# Altium integrated library Analog Devices RF IF Modulators and Demodulators.IntLib: 86 symbols (part 7 of 8)
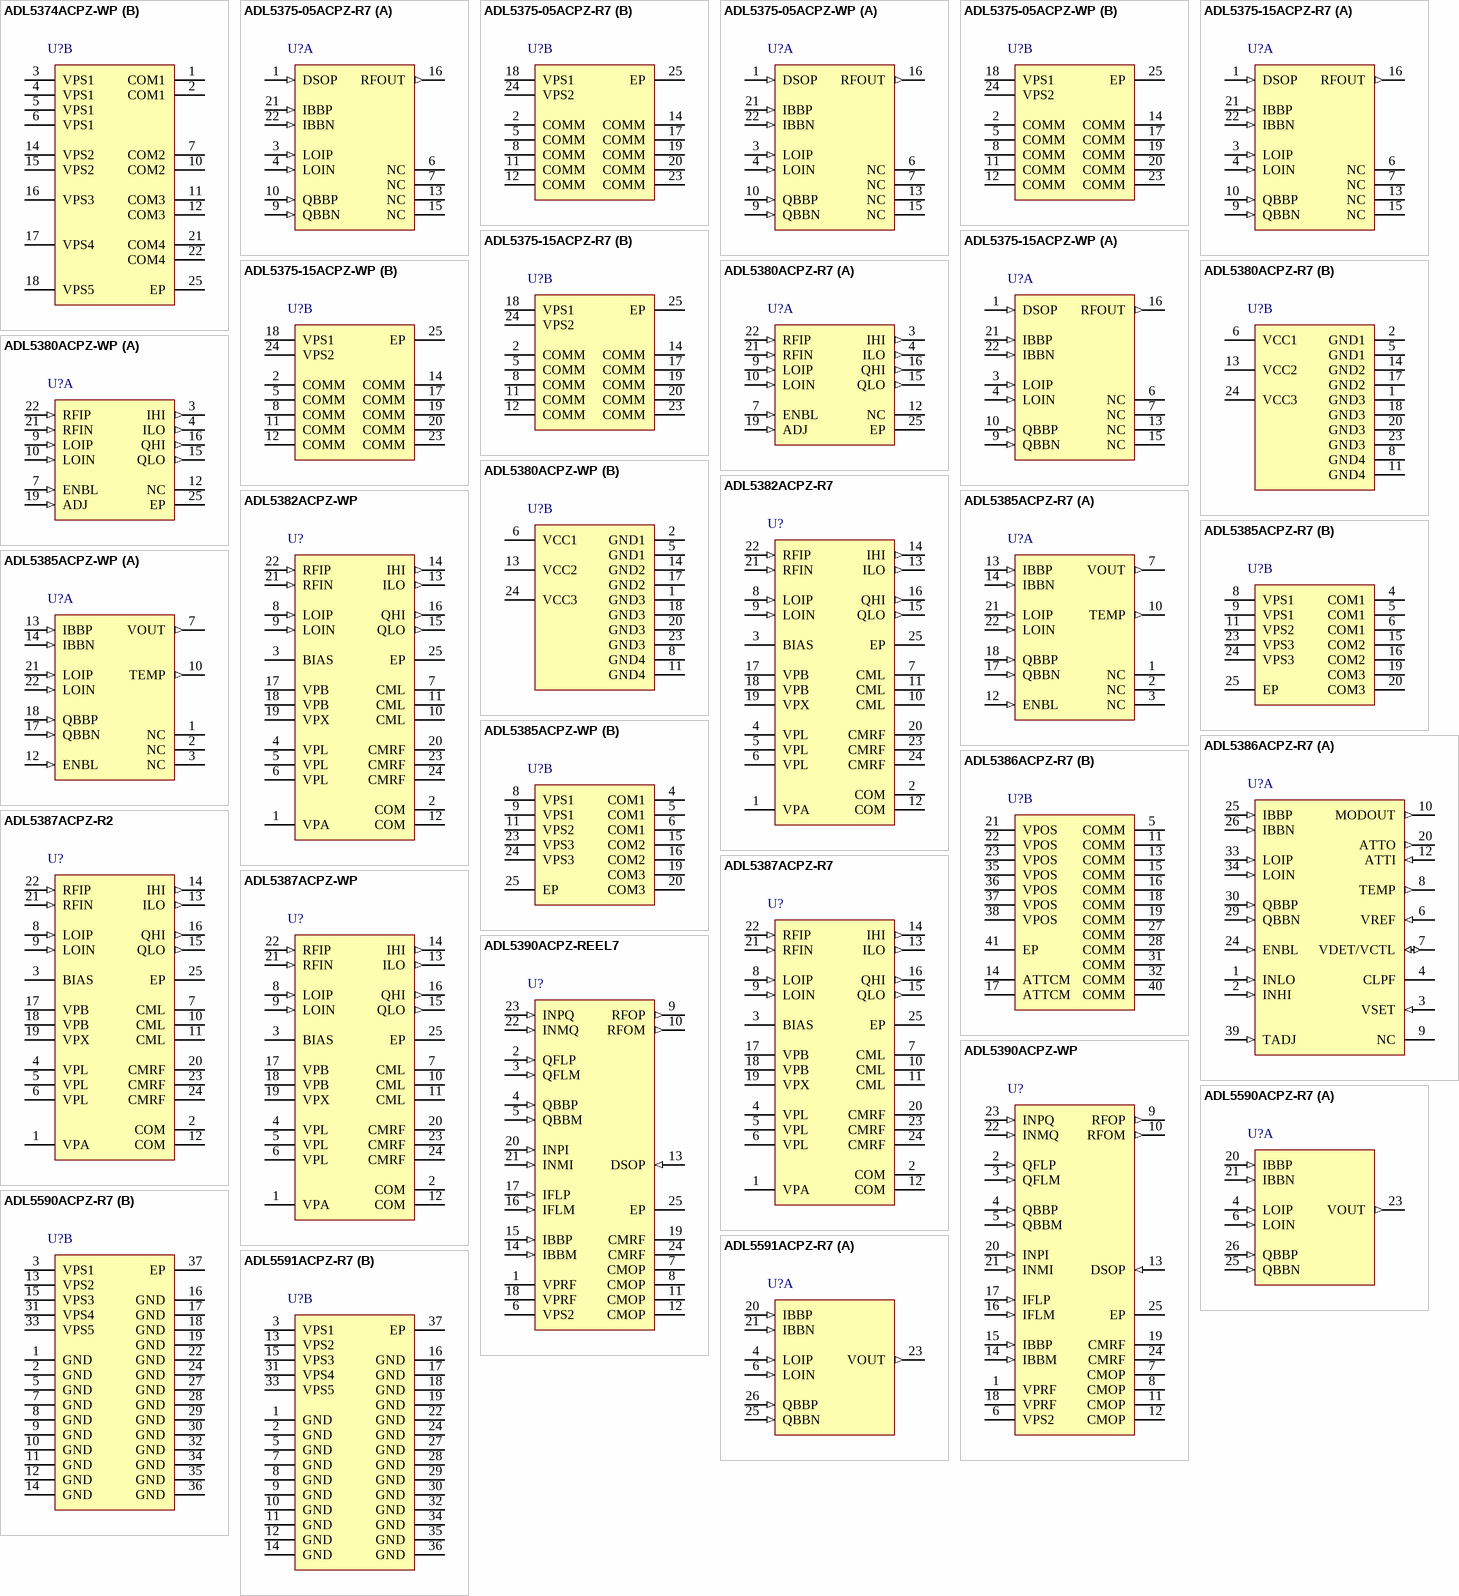
[diagram p11: symbols ADL5374ACPZ-WP to ADL5591ACPZ-R7]

## ADL5590ACPZ-R7
designator U?
869 MHz to 1990 MHz Quadrature Modulators, CP-36-1, Pb-Free, 750 Reel; IIP3 (+dBm): 20dBm; Output P1dB (dBm): 16; DatasheetVersion: Rev0; PackageVersion: 050808-D; PackageReference: CP-36-1; PackageDescription: 36-Lead Lead Frame Chip Scale Package [LFCSP_VQ]; Code_JEDEC: MO-220-VJJD-1; ComponentLink1Description: Manufacturer URL; ComponentLink1URL: www.analog.com; ComponentLink2Description: Datasheet; ComponentLink2URL: http://www.analog.com/static/imported-files/data_sheets/ADL5590_5591.pdf; ComponentLink3Description: Package Specification; ComponentLink3URL: http://www.analog.com/static/imported-files/packages/CP_36_1.pdf
footprint ADI-CP-36-1_N (QFN, 36-Leads, Body 6x6mm, Pitch 0.5mm, Thermal Pad 3.7x3.7mm, IPC Medium Density)
footprint ADI-CP-36-1_L (QFN, 36-Leads, Body 6x6mm, Pitch 0.5mm, Thermal Pad 3.7x3.7mm, IPC High Density)
footprint ADI-CP-36-1_M (QFN, 36-Leads, Body 6x6mm, Pitch 0.5mm, Thermal Pad 3.7x3.7mm, IPC Low Density)
part A pins: 4 LOIP (in) "Local Oscillator Input. 50  ohm single-ended local oscillator input. Pins must be ac-coupled. AC-couple LOIN to ground and drive LO through LOIP.", 6 LOIN (in) "Local Oscillator Input. 50  ohm single-ended local oscillator input. Pins must be ac-coupled. AC-couple LOIN to ground and drive LO through LOIP.", 20 IBBP (in) "Baseband Inputs. Differential in-phase and quadrature baseband inputs. These high impedance inputs must be dc-biased to approximately 1.5 V dc. [see datasheet]", 21 IBBN (in) "Baseband Inputs. Differential in-phase and quadrature baseband inputs. These high impedance inputs must be dc-biased to approximately 1.5 V dc. [see datasheet]", 23 VOUT (out) "RF Output. Single-ended, 50  ohm, internally biased RF output. Pin must be ac-coupled to the load.", 25 QBBN (in) "Baseband Inputs. Differential in-phase and quadrature baseband inputs. These high impedance inputs must be dc-biased to approximately 1.5 V dc. [see datasheet]", 26 QBBP (in) "Baseband Inputs. Differential in-phase and quadrature baseband inputs. These high impedance inputs must be dc-biased to approximately 1.5 V dc. [see datasheet]"
part B pins: 1 GND (power) "Ground. Connect to ground plane via a low impedance path.", 2 GND (power) "Ground. Connect to ground plane via a low impedance path.", 3 VPS1 (power) "Positive Supply Voltage. All pins should be connected to the same supply. To ensure adequate external bypassing, connect 0.1 uF capacitors between each pin and ground.", 5 GND (power) "Ground. Connect to ground plane via a low impedance path.", 7 GND (power) "Ground. Connect to ground plane via a low impedance path.", 8 GND (power) "Ground. Connect to ground plane via a low impedance path.", 9 GND (power) "Ground. Connect to ground plane via a low impedance path.", 10 GND (power) "Ground. Connect to ground plane via a low impedance path.", 11 GND (power) "Ground. Connect to ground plane via a low impedance path.", 12 GND (power) "Ground. Connect to ground plane via a low impedance path.", 13 VPS2 (power) "Positive Supply Voltage. All pins should be connected to the same supply. To ensure adequate external bypassing, connect 0.1 uF capacitors between each pin and ground.", 14 GND (power) "Ground. Connect to ground plane via a low impedance path.", 15 VPS3 (power) "Positive Supply Voltage. All pins should be connected to the same supply. To ensure adequate external bypassing, connect 0.1 uF capacitors between each pin and ground.", 16 GND (power) "Ground. Connect to ground plane via a low impedance path.", 17 GND (power) "Ground. Connect to ground plane via a low impedance path.", 18 GND (power) "Ground. Connect to ground plane via a low impedance path.", 19 GND (power) "Ground. Connect to ground plane via a low impedance path.", 22 GND (power) "Ground. Connect to ground plane via a low impedance path.", 24 GND (power) "Ground. Connect to ground plane via a low impedance path.", 27 GND (power) "Ground. Connect to ground plane via a low impedance path.", 28 GND (power) "Ground. Connect to ground plane via a low impedance path.", 29 GND (power) "Ground. Connect to ground plane via a low impedance path.", 30 GND (power) "Ground. Connect to ground plane via a low impedance path.", 31 VPS4 (power) "Positive Supply Voltage. All pins should be connected to the same supply. To ensure adequate external bypassing, connect 0.1 uF capacitors between each pin and ground.", 32 GND (power) "Ground. Connect to ground plane via a low impedance path.", 33 VPS5 (power) "Positive Supply Voltage. All pins should be connected to the same supply. To ensure adequate external bypassing, connect 0.1 uF capacitors between each pin and ground.", 34 GND (power) "Ground. Connect to ground plane via a low impedance path.", 35 GND (power) "Ground. Connect to ground plane via a low impedance path.", 36 GND (power) "Ground. Connect to ground plane via a low impedance path.", 37 EP (power) "Exposed Paddle. Connect to ground plane via a low impedance path"

## ADL5591ACPZ-R7
designator U?
869 MHz to 1990 MHz Quadrature Modulators, CP-36-1, Pb-Free, 750 Reel; Output P1dB (dBm): 30; DatasheetVersion: Rev0; PackageVersion: 050808-D; PackageReference: CP-36-1; PackageDescription: 36-Lead Lead Frame Chip Scale Package [LFCSP_VQ]; Code_JEDEC: MO-220-VJJD-1; ComponentLink1Description: Manufacturer URL; ComponentLink1URL: www.analog.com; ComponentLink2Description: Datasheet; ComponentLink2URL: http://www.analog.com/static/imported-files/data_sheets/ADL5590_5591.pdf; ComponentLink3Description: Package Specification; ComponentLink3URL: http://www.analog.com/static/imported-files/packages/CP_36_1.pdf
footprint ADI-CP-36-1_N (QFN, 36-Leads, Body 6x6mm, Pitch 0.5mm, Thermal Pad 3.7x3.7mm, IPC Medium Density)
footprint ADI-CP-36-1_L (QFN, 36-Leads, Body 6x6mm, Pitch 0.5mm, Thermal Pad 3.7x3.7mm, IPC High Density)
footprint ADI-CP-36-1_M (QFN, 36-Leads, Body 6x6mm, Pitch 0.5mm, Thermal Pad 3.7x3.7mm, IPC Low Density)
part A pins: 4 LOIP (in) "Local Oscillator Input. 50  ohm single-ended local oscillator input. Pins must be ac-coupled. AC-couple LOIN to ground and drive LO through LOIP.", 6 LOIN (in) "Local Oscillator Input. 50  ohm single-ended local oscillator input. Pins must be ac-coupled. AC-couple LOIN to ground and drive LO through LOIP.", 20 IBBP (in) "Baseband Inputs. Differential in-phase and quadrature baseband inputs. These high impedance inputs must be dc-biased to approximately 1.5 V dc. [see datasheet]", 21 IBBN (in) "Baseband Inputs. Differential in-phase and quadrature baseband inputs. These high impedance inputs must be dc-biased to approximately 1.5 V dc. [see datasheet]", 23 VOUT (out) "RF Output. Single-ended, 50  ohm, internally biased RF output. Pin must be ac-coupled to the load.", 25 QBBN (in) "Baseband Inputs. Differential in-phase and quadrature baseband inputs. These high impedance inputs must be dc-biased to approximately 1.5 V dc. [see datasheet]", 26 QBBP (in) "Baseband Inputs. Differential in-phase and quadrature baseband inputs. These high impedance inputs must be dc-biased to approximately 1.5 V dc. [see datasheet]"
part B pins: 1 GND (power) "Ground. Connect to ground plane via a low impedance path.", 2 GND (power) "Ground. Connect to ground plane via a low impedance path.", 3 VPS1 (power) "Positive Supply Voltage. All pins should be connected to the same supply. To ensure adequate external bypassing, connect 0.1 uF capacitors between each pin and ground.", 5 GND (power) "Ground. Connect to ground plane via a low impedance path.", 7 GND (power) "Ground. Connect to ground plane via a low impedance path.", 8 GND (power) "Ground. Connect to ground plane via a low impedance path.", 9 GND (power) "Ground. Connect to ground plane via a low impedance path.", 10 GND (power) "Ground. Connect to ground plane via a low impedance path.", 11 GND (power) "Ground. Connect to ground plane via a low impedance path.", 12 GND (power) "Ground. Connect to ground plane via a low impedance path.", 13 VPS2 (power) "Positive Supply Voltage. All pins should be connected to the same supply. To ensure adequate external bypassing, connect 0.1 uF capacitors between each pin and ground.", 14 GND (power) "Ground. Connect to ground plane via a low impedance path.", 15 VPS3 (power) "Positive Supply Voltage. All pins should be connected to the same supply. To ensure adequate external bypassing, connect 0.1 uF capacitors between each pin and ground.", 16 GND (power) "Ground. Connect to ground plane via a low impedance path.", 17 GND (power) "Ground. Connect to ground plane via a low impedance path.", 18 GND (power) "Ground. Connect to ground plane via a low impedance path.", 19 GND (power) "Ground. Connect to ground plane via a low impedance path.", 22 GND (power) "Ground. Connect to ground plane via a low impedance path.", 24 GND (power) "Ground. Connect to ground plane via a low impedance path.", 27 GND (power) "Ground. Connect to ground plane via a low impedance path.", 28 GND (power) "Ground. Connect to ground plane via a low impedance path.", 29 GND (power) "Ground. Connect to ground plane via a low impedance path.", 30 GND (power) "Ground. Connect to ground plane via a low impedance path.", 31 VPS4 (power) "Positive Supply Voltage. All pins should be connected to the same supply. To ensure adequate external bypassing, connect 0.1 uF capacitors between each pin and ground.", 32 GND (power) "Ground. Connect to ground plane via a low impedance path.", 33 VPS5 (power) "Positive Supply Voltage. All pins should be connected to the same supply. To ensure adequate external bypassing, connect 0.1 uF capacitors between each pin and ground.", 34 GND (power) "Ground. Connect to ground plane via a low impedance path.", 35 GND (power) "Ground. Connect to ground plane via a low impedance path.", 36 GND (power) "Ground. Connect to ground plane via a low impedance path.", 37 EP (power) "Exposed Paddle. Connect to ground plane via a low impedance path"

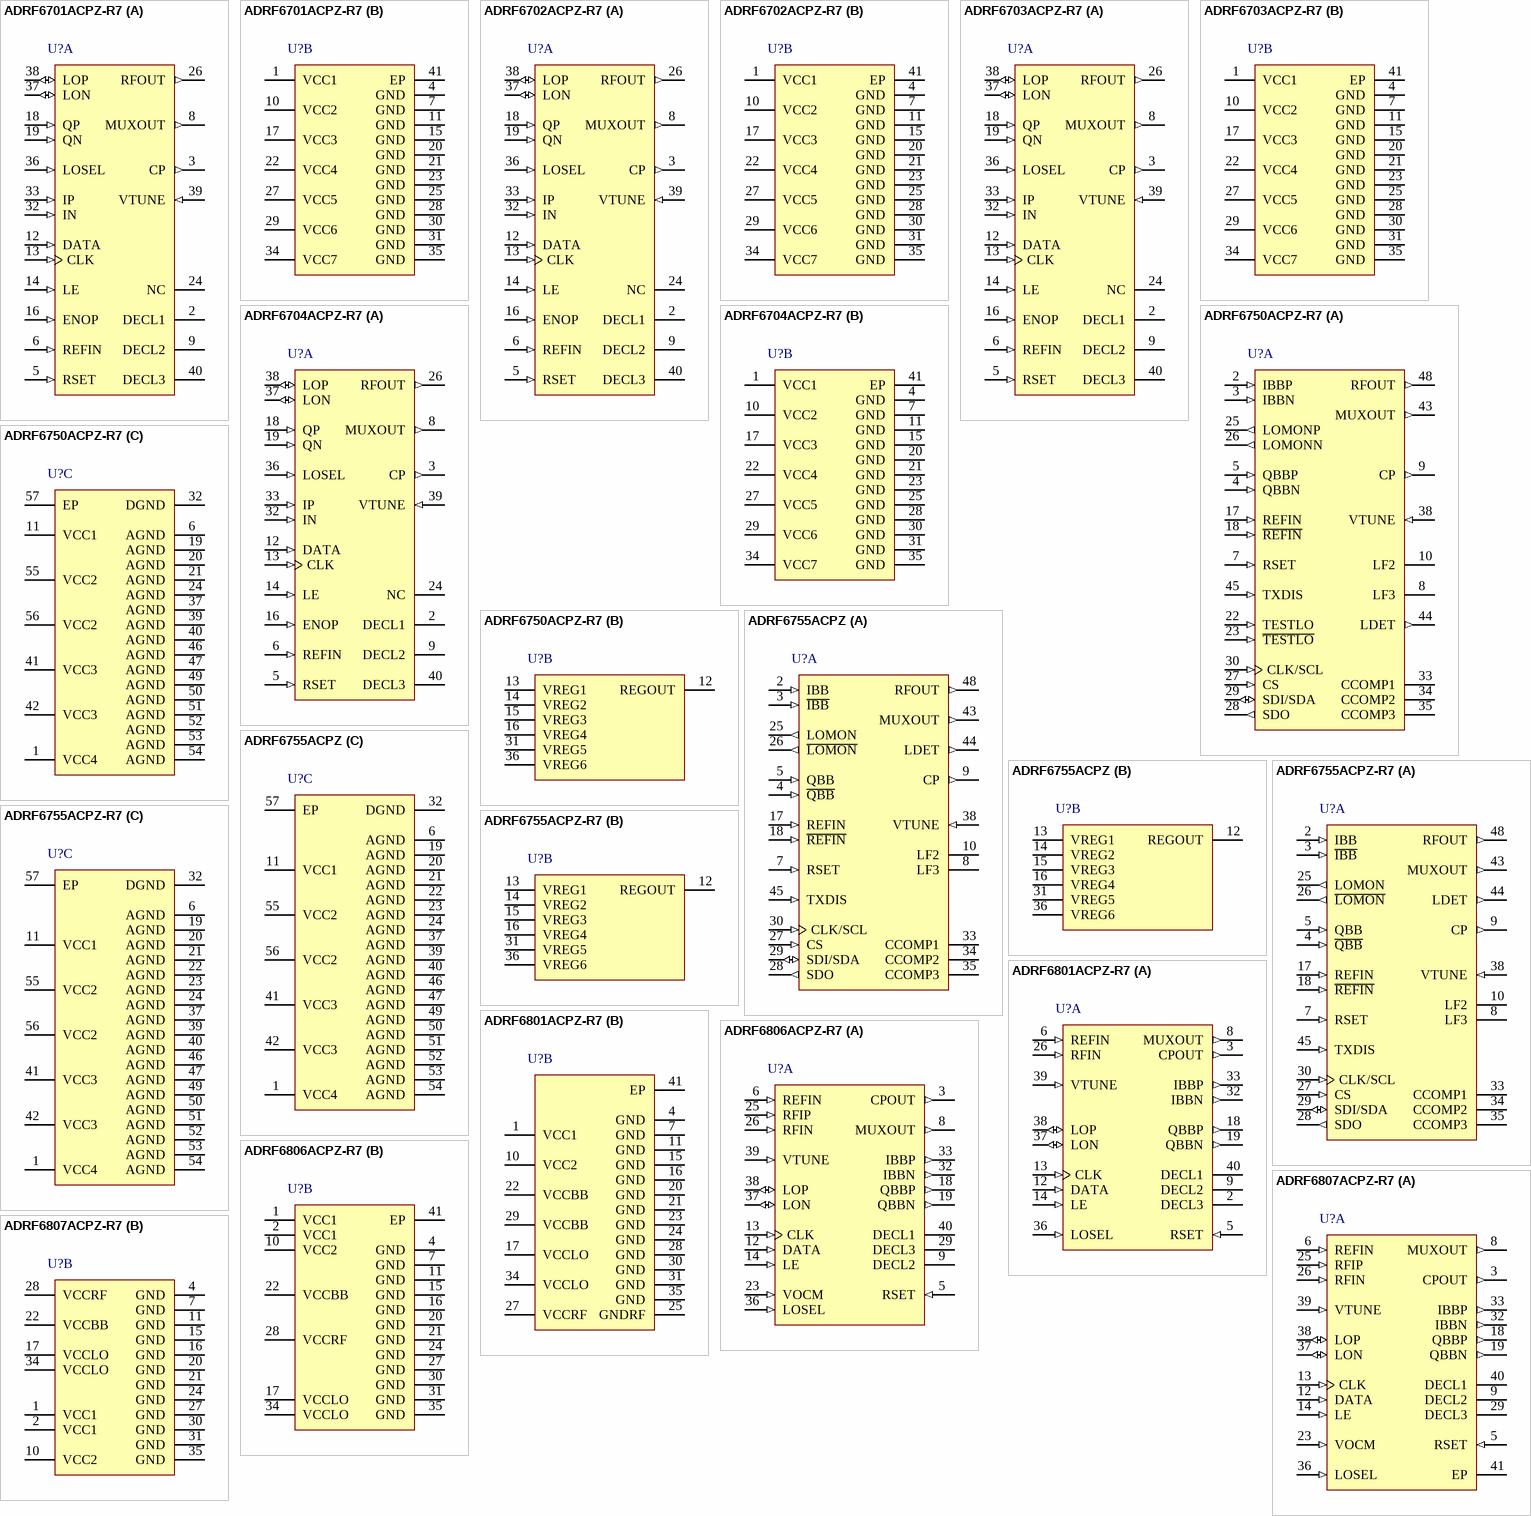
[diagram p4: symbols ADRF6701ACPZ-R7 to ADRF6807ACPZ-R7]

## ADRF6701ACPZ-R7
designator U?
400 MHz to 1250 MHz Quadrature Modulator with 750 MHz to 1150 MHz Frac-N PLL and Integrated VCO, CP-40-1, Pb-Free, 750 Reel; Min RF Frequency (MHz): 400MHz; Max RF Frequency (MHz): 1.3GHz; IQ Freq (MHz): 500MHz; IIP3 (+dBm): 29dBm; Output P1dB (dBm): 14; DatasheetVersion: Rev0; PackageVersion: Oct-2006; PackageReference: CP-40-1; PackageDescription: 40-Lead Lead Frame Chip Scale Package [LFCSP_VQ]; Code_JEDEC: MO-220-VJJD-2; ComponentLink1Description: Manufacturer URL; ComponentLink1URL: www.analog.com; ComponentLink2Description: Datasheet; ComponentLink2URL: http://www.analog.com/static/imported-files/data_sheets/ADRF6701.pdf; ComponentLink3Description: Package Specification; ComponentLink3URL: http://www.analog.com/static/imported-files/packages/PKG_PDF/LFCSP(CP)/CP_40_1.pdf
footprint ADI-CP-40-1_N (QFN, 40-Leads, Body 6x6mm, Pitch 0.5mm, Thermal Pad 4.3x4.3mm, IPC Medium Density)
footprint ADI-CP-40-1_L (QFN, 40-Leads, Body 6x6mm, Pitch 0.5mm, Thermal Pad 4.3x4.3mm, IPC High Density)
footprint ADI-CP-40-1_M (QFN, 40-Leads, Body 6x6mm, Pitch 0.5mm, Thermal Pad 4.3x4.3mm, IPC Low Density)
part A pins: 2 DECL1 "Decoupling Node for Internal 3.3 V LDO. Decouple this pin with 100 pF and 0.1 uF capacitors located close to the pin.", 3 CP (out) "Charge Pump Output Pin. Connect VTUNE to this pin through the loop filter. If an external VCO is being used, connect the output of the loop filter to the VCO’s voltage control pin. [see datasheet]", 5 RSET (in) "Charge Pump Current. The nominal charge pump current can be set to 250 µA, 500 µA, 750 µA, or 1000 µA using DB10 and DB11 of Register 4 and by setting DB18 to 0 (CP reference source).", 6 REFIN (in) "Reference Input. The nominal input level is 1 V p-p. Input range is 12 MHz to 160 MHz. This pin has high input impedance and should be ac-coupled. [see datasheet]", 8 MUXOUT (out) "Multiplexer Output. This output allows a digital lock detect signal, a voltage proportional to absolute temperature (VPTAT), or a buffered, frequency-scaled reference signal to be accessed externally. [see datasheet]", 9 DECL2 "Decoupling Node for 2.5 V LDO. Connect 100 pF, 0.1 uF, and 10 uF capacitors between this pin and ground.", 12 DATA (in) "Serial Data Input. The serial data input is loaded MSB first with the three LSBs being the control bits.", 13 CLK (in) "Serial Clock Input. This serial clock input is used to clock in the serial data to the registers. The data is latched into the 24-bit shift register on the CLK rising edge. [see datasheet]", 14 LE (in) "Latch Enable. [see datasheet]", 16 ENOP (in) "Modulator Output Enable/Disable. See Table 6.", 18 QP (in) "Modulator Baseband Inputs. Differential in-phase and quadrature baseband inputs. These inputs should be dc-biased to 0.5 V.", 19 QN (in) "Modulator Baseband Inputs. Differential in-phase and quadrature baseband inputs. These inputs should be dc-biased to 0.5 V.", 24 NC "Do not connect to this pin.", 26 RFOUT (out) "RF Output. Single-ended, 50  ohm internally biased RF output. RFOUT must be ac-coupled to its load.", 32 IN (in) "Modulator Baseband Inputs. Differential in-phase and quadrature baseband inputs. These inputs should be dc-biased to 0.5 V.", 33 IP (in) "Modulator Baseband Inputs. Differential in-phase and quadrature baseband inputs. These inputs should be dc-biased to 0.5 V.", 36 LOSEL (in) "LO Select. This digital input pin determines whether the LOP and LON pins operate as inputs or outputs. This pin should not be left floating. [see datasheet]", 37 LON (io) "Local Oscillator Input/Output. The internally generated 1x LO or 2x LO is available on these pins.", 38 LOP (io) "Local Oscillator Input/Output. The internally generated 1x LO or 2x LO is available on these pins.", 39 VTUNE (in) "VCO Control Voltage Input. This pin is driven by the output of the loop filter. Nominal input voltage range on this pin is 1.3 V to 2.5 V. [see datasheet]", 40 DECL3 "Decoupling Node for VCO LDO. Connect a 100 pF capacitor and a 10 uF capacitor between this pin and ground."
part B pins: 1 VCC1 (power) "Power Supply Pins. The power supply voltage range is 4.75 V to 5.25 V. Drive all of these pins from the same power supply voltage. [see datasheet]", 4 GND (power) "Ground. Connect these pins to a low impedance ground plane.", 7 GND (power) "Ground. Connect these pins to a low impedance ground plane.", 10 VCC2 (power) "Power Supply Pins. The power supply voltage range is 4.75 V to 5.25 V. Drive all of these pins from the same power supply voltage. [see datasheet]", 11 GND (power) "Ground. Connect these pins to a low impedance ground plane.", 15 GND (power) "Ground. Connect these pins to a low impedance ground plane.", 17 VCC3 (power) "Power Supply Pins. The power supply voltage range is 4.75 V to 5.25 V. Drive all of these pins from the same power supply voltage. [see datasheet]", 20 GND (power) "Ground. Connect these pins to a low impedance ground plane.", 21 GND (power) "Ground. Connect these pins to a low impedance ground plane.", 22 VCC4 (power) "Power Supply Pins. The power supply voltage range is 4.75 V to 5.25 V. Drive all of these pins from the same power supply voltage. [see datasheet]", 23 GND (power) "Ground. Connect these pins to a low impedance ground plane.", 25 GND (power) "Ground. Connect these pins to a low impedance ground plane.", 27 VCC5 (power) "Power Supply Pins. The power supply voltage range is 4.75 V to 5.25 V. Drive all of these pins from the same power supply voltage. [see datasheet]", 28 GND (power) "Ground. Connect these pins to a low impedance ground plane.", 29 VCC6 (power) "Power Supply Pins. The power supply voltage range is 4.75 V to 5.25 V. Drive all of these pins from the same power supply voltage. [see datasheet]", 30 GND (power) "Ground. Connect these pins to a low impedance ground plane.", 31 GND (power) "Ground. Connect these pins to a low impedance ground plane.", 34 VCC7 (power) "Power Supply Pins. The power supply voltage range is 4.75 V to 5.25 V. Drive all of these pins from the same power supply voltage. [see datasheet]", 35 GND (power) "Ground. Connect these pins to a low impedance ground plane.", 41 EP (power) "Exposed Paddle. The exposed paddle should be soldered to a low impedance ground plane."

## ADRF6702ACPZ-R7
designator U?
1200 MHz to 2400 MHz Quadrature Modulator with 1550 MHz to 2150 MHz Frac-N PLL and Integrated VCO, CP-40-1, Pb-Free, 750 Reel; Min RF Frequency (MHz): 1.2GHz; Max RF Frequency (MHz): 2.4GHz; IQ Freq (MHz): 750MHz; IIP3 (+dBm): 29.1dBm; Output P1dB (dBm): 13.1; DatasheetVersion: RevB; PackageVersion: Oct-2006; PackageReference: CP-40-1; PackageDescription: 40-Lead Lead Frame Chip Scale Package [LFCSP_VQ]; Code_JEDEC: MO-220-VJJD-2; ComponentLink1Description: Manufacturer URL; ComponentLink1URL: www.analog.com; ComponentLink2Description: Datasheet; ComponentLink2URL: http://www.analog.com/static/imported-files/data_sheets/ADRF6702.pdf; ComponentLink3Description: Package Specification; ComponentLink3URL: http://www.analog.com/static/imported-files/packages/PKG_PDF/LFCSP(CP)/CP_40_1.pdf
footprint ADI-CP-40-1_N (QFN, 40-Leads, Body 6x6mm, Pitch 0.5mm, Thermal Pad 4.3x4.3mm, IPC Medium Density)
footprint ADI-CP-40-1_L (QFN, 40-Leads, Body 6x6mm, Pitch 0.5mm, Thermal Pad 4.3x4.3mm, IPC High Density)
footprint ADI-CP-40-1_M (QFN, 40-Leads, Body 6x6mm, Pitch 0.5mm, Thermal Pad 4.3x4.3mm, IPC Low Density)
part A pins: 2 DECL1 "Decoupling Node for Internal 3.3 V LDO. Decouple this pin with 100 pF and 0.1 uF capacitors located close to the pin.", 3 CP (out) "Charge Pump Output Pin. Connect VTUNE to this pin through the loop filter. If an external VCO is being used, connect the output of the loop filter to the VCO’s voltage control pin. [see datasheet]", 5 RSET (in) "Charge Pump Current. The nominal charge pump current can be set to 250 µA, 500 µA, 750 µA, or 1000 µA using DB10 and DB11 of Register 4 and by setting DB18 to 0 (CP reference source).", 6 REFIN (in) "Reference Input. The nominal input level is 1 V p-p. Input range is 12 MHz to 160 MHz. This pin has high input impedance and should be ac-coupled. [see datasheet]", 8 MUXOUT (out) "Multiplexer Output. This output allows a digital lock detect signal, a voltage proportional to absolute temperature (VPTAT), or a buffered, frequency-scaled reference signal to be accessed externally. [see datasheet]", 9 DECL2 "Decoupling Node for 2.5 V LDO. Connect 100 pF, 0.1 uF, and 10 uF capacitors between this pin and ground.", 12 DATA (in) "Serial Data Input. The serial data input is loaded MSB first with the three LSBs being the control bits.", 13 CLK (in) "Serial Clock Input. This serial clock input is used to clock in the serial data to the registers. The data is latched into the 24-bit shift register on the CLK rising edge. [see datasheet]", 14 LE (in) "Latch Enable.", 16 ENOP (in) "Modulator Output Enable/Disable. See Table 6.", 18 QP (in) "Modulator Baseband Inputs. Differential in-phase and quadrature baseband inputs. These inputs should be dc-biased to 0.5 V.", 19 QN (in) "Modulator Baseband Inputs. Differential in-phase and quadrature baseband inputs. These inputs should be dc-biased to 0.5 V.", 24 NC "Do not connect to this pin.", 26 RFOUT (out) "RF Output. Single-ended, 50  ohm internally biased RF output. RFOUT must be ac-coupled to its load.", 32 IN (in) "Modulator Baseband Inputs. Differential in-phase and quadrature baseband inputs. These inputs should be dc-biased to 0.5 V.", 33 IP (in) "Modulator Baseband Inputs. Differential in-phase and quadrature baseband inputs. These inputs should be dc-biased to 0.5 V.", 36 LOSEL (in) "LO Select. This digital input pin determines whether the LOP and LON pins operate as inputs or outputs. This pin should not be left floating. [see datasheet]", 37 LON (io) "Local Oscillator Input/Output.", 38 LOP (io) "Local Oscillator Input/Output.", 39 VTUNE (in) "VCO Control Voltage Input. This pin is driven by the output of the loop filter. Nominal input voltage range on this pin is 1.3 V to 2.5 V. [see datasheet]", 40 DECL3 "Decoupling Node for VCO LDO. Connect a 100 pF capacitor and a 10 uF capacitor between this pin and ground."
part B pins: 1 VCC1 (power) "Power Supply Pins. The power supply voltage range is 4.75 V to 5.25 V. Drive all of these pins from the same power supply voltage. [see datasheet]", 4 GND (power) "Ground. Connect these pins to a low impedance ground plane.", 7 GND (power) "Ground. Connect these pins to a low impedance ground plane.", 10 VCC2 (power) "Power Supply Pins. The power supply voltage range is 4.75 V to 5.25 V. Drive all of these pins from the same power supply voltage. [see datasheet]", 11 GND (power) "Ground. Connect these pins to a low impedance ground plane.", 15 GND (power) "Ground. Connect these pins to a low impedance ground plane.", 17 VCC3 (power) "Power Supply Pins. The power supply voltage range is 4.75 V to 5.25 V. Drive all of these pins from the same power supply voltage. [see datasheet]", 20 GND (power) "Ground. Connect these pins to a low impedance ground plane.", 21 GND (power) "Ground. Connect these pins to a low impedance ground plane.", 22 VCC4 (power) "Power Supply Pins. The power supply voltage range is 4.75 V to 5.25 V. Drive all of these pins from the same power supply voltage. [see datasheet]", 23 GND (power) "Ground. Connect these pins to a low impedance ground plane.", 25 GND (power) "Ground. Connect these pins to a low impedance ground plane.", 27 VCC5 (power) "Power Supply Pins. The power supply voltage range is 4.75 V to 5.25 V. Drive all of these pins from the same power supply voltage. [see datasheet]", 28 GND (power) "Ground. Connect these pins to a low impedance ground plane.", 29 VCC6 (power) "Power Supply Pins. The power supply voltage range is 4.75 V to 5.25 V. Drive all of these pins from the same power supply voltage. [see datasheet]", 30 GND (power) "Ground. Connect these pins to a low impedance ground plane.", 31 GND (power) "Ground. Connect these pins to a low impedance ground plane.", 34 VCC7 (power) "Power Supply Pins. The power supply voltage range is 4.75 V to 5.25 V. Drive all of these pins from the same power supply voltage. [see datasheet]", 35 GND (power) "Ground. Connect these pins to a low impedance ground plane.", 41 EP (power) "Exposed Paddle. The exposed paddle should be soldered to a low impedance ground plane."

## ADRF6703ACPZ-R7
designator U?
1550 MHz to 2650 MHz Quadrature Modulator with 2100 MHz to 2600 MHz Frac-N PLL and Integrated VCO, CP-40-1, Pb-Free, 750 Reel; Min RF Frequency (MHz): 1.55GHz; Max RF Frequency (MHz): 2.65GHz; IQ Freq (MHz): 750MHz; IIP3 (+dBm): 33.2dBm; Output P1dB (dBm): 14.2; DatasheetVersion: RevB; PackageVersion: Oct-2006; PackageReference: CP-40-1; PackageDescription: 40-Lead Lead Frame Chip Scale Package [LFCSP_VQ]; Code_JEDEC: MO-220-VJJD-2; ComponentLink1Description: Manufacturer URL; ComponentLink1URL: www.analog.com; ComponentLink2Description: Datasheet; ComponentLink2URL: http://www.analog.com/static/imported-files/data_sheets/ADRF6703.pdf; ComponentLink3Description: Package Specification; ComponentLink3URL: http://www.analog.com/static/imported-files/packages/PKG_PDF/LFCSP(CP)/CP_40_1.pdf
footprint ADI-CP-40-1_N (QFN, 40-Leads, Body 6x6mm, Pitch 0.5mm, Thermal Pad 4.3x4.3mm, IPC Medium Density)
footprint ADI-CP-40-1_L (QFN, 40-Leads, Body 6x6mm, Pitch 0.5mm, Thermal Pad 4.3x4.3mm, IPC High Density)
footprint ADI-CP-40-1_M (QFN, 40-Leads, Body 6x6mm, Pitch 0.5mm, Thermal Pad 4.3x4.3mm, IPC Low Density)
part A pins: 2 DECL1 "Decoupling Node for Internal 3.3 V LDO. Decouple this pin with 100 pF and 0.1 uF capacitors located close to the pin.", 3 CP (out) "Charge Pump Output Pin. Connect VTUNE to this pin through the loop filter. If an external VCO is being used, connect the output of the loop filter to the VCO’s voltage control pin. [see datasheet]", 5 RSET (in) "Charge Pump Current. The nominal charge pump current can be set to 250 µA, 500 µA, 750 µA, or 1000 µA using DB10 and DB11 of Register 4 and by setting DB18 to 0 (CP reference source).", 6 REFIN (in) "Reference Input. The nominal input level is 1 V p-p. Input range is 12 MHz to 160 MHz. This pin has high input impedance and should be ac-coupled. [see datasheet]", 8 MUXOUT (out) "Multiplexer Output. This output allows a digital lock detect signal, a voltage proportional to absolute temperature (VPTAT), or a buffered, frequency-scaled reference signal to be accessed externally. [see datasheet]", 9 DECL2 "Decoupling Node for 2.5 V LDO. Connect 100 pF, 0.1 uF, and 10 uF capacitors between this pin and ground.", 12 DATA (in) "Serial Data Input. The serial data input is loaded MSB first with the three LSBs being the control bits.", 13 CLK (in) "Serial Clock Input. This serial clock input is used to clock in the serial data to the registers. The data is latched into the 24-bit shift register on the CLK rising edge. [see datasheet]", 14 LE (in) "Latch Enable.", 16 ENOP (in) "Modulator Output Enable/Disable. See Table 6.", 18 QP (in) "Modulator Baseband Inputs. Differential in-phase and quadrature baseband inputs. These inputs should be dc-biased to 0.5 V.", 19 QN (in) "Modulator Baseband Inputs. Differential in-phase and quadrature baseband inputs. These inputs should be dc-biased to 0.5 V.", 24 NC "Do not connect to this pin.", 26 RFOUT (out) "RF Output. Single-ended, 50  ohm internally biased RF output. RFOUT must be ac-coupled to its load.", 32 IN (in) "Modulator Baseband Inputs. Differential in-phase and quadrature baseband inputs. These inputs should be dc-biased to 0.5 V.", 33 IP (in) "Modulator Baseband Inputs. Differential in-phase and quadrature baseband inputs. These inputs should be dc-biased to 0.5 V.", 36 LOSEL (in) "LO Select. This digital input pin determines whether the LOP and LON pins operate as inputs or outputs. This pin should not be left floating. [see datasheet]", 37 LON (io) "Local Oscillator Input/Output.", 38 LOP (io) "Local Oscillator Input/Output.", 39 VTUNE (in) "VCO Control Voltage Input. This pin is driven by the output of the loop filter. Nominal input voltage range on this pin is 1.3 V to 2.5 V. [see datasheet]", 40 DECL3 "Decoupling Node for VCO LDO. Connect a 100 pF capacitor and a 10 uF capacitor between this pin and ground."
part B pins: 1 VCC1 (power) "Power Supply Pins. The power supply voltage range is 4.75 V to 5.25 V. Drive all of these pins from the same power supply voltage. [see datasheet]", 4 GND (power) "Ground. Connect these pins to a low impedance ground plane.", 7 GND (power) "Ground. Connect these pins to a low impedance ground plane.", 10 VCC2 (power) "Power Supply Pins. The power supply voltage range is 4.75 V to 5.25 V. Drive all of these pins from the same power supply voltage. [see datasheet]", 11 GND (power) "Ground. Connect these pins to a low impedance ground plane.", 15 GND (power) "Ground. Connect these pins to a low impedance ground plane.", 17 VCC3 (power) "Power Supply Pins. The power supply voltage range is 4.75 V to 5.25 V. Drive all of these pins from the same power supply voltage. [see datasheet]", 20 GND (power) "Ground. Connect these pins to a low impedance ground plane.", 21 GND (power) "Ground. Connect these pins to a low impedance ground plane.", 22 VCC4 (power) "Power Supply Pins. The power supply voltage range is 4.75 V to 5.25 V. Drive all of these pins from the same power supply voltage. [see datasheet]", 23 GND (power) "Ground. Connect these pins to a low impedance ground plane.", 25 GND (power) "Ground. Connect these pins to a low impedance ground plane.", 27 VCC5 (power) "Power Supply Pins. The power supply voltage range is 4.75 V to 5.25 V. Drive all of these pins from the same power supply voltage. [see datasheet]", 28 GND (power) "Ground. Connect these pins to a low impedance ground plane.", 29 VCC6 (power) "Power Supply Pins. The power supply voltage range is 4.75 V to 5.25 V. Drive all of these pins from the same power supply voltage. [see datasheet]", 30 GND (power) "Ground. Connect these pins to a low impedance ground plane.", 31 GND (power) "Ground. Connect these pins to a low impedance ground plane.", 34 VCC7 (power) "Power Supply Pins. The power supply voltage range is 4.75 V to 5.25 V. Drive all of these pins from the same power supply voltage. [see datasheet]", 35 GND (power) "Ground. Connect these pins to a low impedance ground plane.", 41 EP (power) "Exposed Paddle. Connect to ground plane via a low impedance path."

## ADRF6704ACPZ-R7
designator U?
2050 MHz to 3000 MHz Quadrature Modulator with 2500 MHz to 2900 MHz Frac-N PLL and Integrated VCO, CP-40-1, Pb-Free, 750 Reel; Min RF Frequency (MHz): 2.2GHz; Max RF Frequency (MHz): 3GHz; IQ Freq (MHz): 500MHz; IIP3 (+dBm): 31dBm; Output P1dB (dBm): 15; DatasheetVersion: Rev0; PackageVersion: Oct-2006; PackageReference: CP-40-1; PackageDescription: 40-Lead Lead Frame Chip Scale Package [LFCSP_VQ]; Code_JEDEC: MO-220-VJJD-2; ComponentLink1Description: Manufacturer URL; ComponentLink1URL: www.analog.com; ComponentLink2Description: Datasheet; ComponentLink2URL: http://www.analog.com/static/imported-files/data_sheets/ADRF6704.pdf; ComponentLink3Description: Package Specification; ComponentLink3URL: http://www.analog.com/static/imported-files/packages/PKG_PDF/LFCSP(CP)/CP_40_1.pdf
footprint ADI-CP-40-1_N (QFN, 40-Leads, Body 6x6mm, Pitch 0.5mm, Thermal Pad 4.3x4.3mm, IPC Medium Density)
footprint ADI-CP-40-1_L (QFN, 40-Leads, Body 6x6mm, Pitch 0.5mm, Thermal Pad 4.3x4.3mm, IPC High Density)
footprint ADI-CP-40-1_M (QFN, 40-Leads, Body 6x6mm, Pitch 0.5mm, Thermal Pad 4.3x4.3mm, IPC Low Density)
part A pins: 2 DECL1 "Decoupling Node for Internal 3.3 V LDO. Decouple this pin with 100 pF and 0.1 uF capacitors located close to the pin.", 3 CP (out) "Charge Pump Output Pin. Connect VTUNE to this pin through the loop filter.", 5 RSET (in) "Charge Pump Current. The nominal charge pump current can be set to 250 µA, 500 µA, 750 µA, or 1000 µA using DB10 and DB11 of Register 4 and by setting DB18 to 0 (CP reference source).", 6 REFIN (in) "Reference Input. The nominal input level is 1 V p-p. Input range is 11 MHz to 160 MHz. This pin has high input impedance and should be ac-coupled. [see datasheet]", 8 MUXOUT (out) "Multiplexer Output. This output allows a digital lock detect signal, a voltage proportional to absolute temperature (VPTAT), or a buffered, frequency-scaled reference signal to be accessed externally. [see datasheet]", 9 DECL2 "Decoupling Node for 2.5 V LDO. Connect 100 pF, 0.1 uF, and 10 uF capacitors between this pin and ground.", 12 DATA (in) "Serial Data Input. The serial data input is loaded MSB first with the three LSBs being the control bits.", 13 CLK (in) "Serial Clock Input. This serial clock input is used to clock in the serial data to the registers. The data is latched into the 24-bit shift register on the CLK rising edge. [see datasheet]", 14 LE (in) "Latch Enable.", 16 ENOP (in) "Modulator Output Enable/Disable. See Table 6.", 18 QP (in) "Modulator Baseband Inputs. Differential in-phase and quadrature baseband inputs. These inputs should be dc-biased to 0.5 V.", 19 QN (in) "Modulator Baseband Inputs. Differential in-phase and quadrature baseband inputs. These inputs should be dc-biased to 0.5 V.", 24 NC "Do not connect to this pin.", 26 RFOUT (out) "RF Output. Single-ended, 50  ohm internally biased RF output. RFOUT must be ac-coupled to its load.", 32 IN (in) "Modulator Baseband Inputs. Differential in-phase and quadrature baseband inputs. These inputs should be dc-biased to 0.5 V.", 33 IP (in) "Modulator Baseband Inputs. Differential in-phase and quadrature baseband inputs. These inputs should be dc-biased to 0.5 V.", 36 LOSEL (in) "LO Select. This digital input pin determines whether the LOP and LON pins operate as inputs or outputs. This pin should not be left floating. [see datasheet]", 37 LON (io) "Local Oscillator Input/Output.", 38 LOP (io) "Local Oscillator Input/Output.", 39 VTUNE (in) "VCO Control Voltage Input. This pin is driven by the output of the loop filter. Nominal input voltage range on this pin is 1.3 V to 2.5 V. [see datasheet]", 40 DECL3 "Decoupling Node for VCO LDO. Connect a 100 pF capacitor and a 10 uF capacitor between this pin and ground."
part B pins: 1 VCC1 (power) "Power Supply Pins. The power supply voltage range is 4.75 V to 5.25 V. Drive all of these pins from the same power supply voltage. [see datasheet]", 4 GND (power) "Ground. Connect these pins to a low impedance ground plane.", 7 GND (power) "Ground. Connect these pins to a low impedance ground plane.", 10 VCC2 (power) "Power Supply Pins. The power supply voltage range is 4.75 V to 5.25 V. Drive all of these pins from the same power supply voltage. [see datasheet]", 11 GND (power) "Ground. Connect these pins to a low impedance ground plane.", 15 GND (power) "Ground. Connect these pins to a low impedance ground plane.", 17 VCC3 (power) "Power Supply Pins. The power supply voltage range is 4.75 V to 5.25 V. Drive all of these pins from the same power supply voltage. [see datasheet]", 20 GND (power) "Ground. Connect these pins to a low impedance ground plane.", 21 GND (power) "Ground. Connect these pins to a low impedance ground plane.", 22 VCC4 (power) "Power Supply Pins. The power supply voltage range is 4.75 V to 5.25 V. Drive all of these pins from the same power supply voltage. [see datasheet]", 23 GND (power) "Ground. Connect these pins to a low impedance ground plane.", 25 GND (power) "Ground. Connect these pins to a low impedance ground plane.", 27 VCC5 (power) "Power Supply Pins. The power supply voltage range is 4.75 V to 5.25 V. Drive all of these pins from the same power supply voltage. [see datasheet]", 28 GND (power) "Ground. Connect these pins to a low impedance ground plane.", 29 VCC6 (power) "Power Supply Pins. The power supply voltage range is 4.75 V to 5.25 V. Drive all of these pins from the same power supply voltage. [see datasheet]", 30 GND (power) "Ground. Connect these pins to a low impedance ground plane.", 31 GND (power) "Ground. Connect these pins to a low impedance ground plane.", 34 VCC7 (power) "Power Supply Pins. The power supply voltage range is 4.75 V to 5.25 V. Drive all of these pins from the same power supply voltage. [see datasheet]", 35 GND (power) "Ground. Connect these pins to a low impedance ground plane.", 41 EP (power) "Exposed Paddle. The exposed paddle should be soldered to a low impedance ground plane."

## ADRF6750ACPZ-R7
designator U?
950 MHz to 1575 MHz Quadrature Modulator with Integrated Fractional-N PLL and VCO, CP-56-3, Pb-Free, 750 Reel; Min RF Frequency (MHz): 950MHz; Max RF Frequency (MHz): 1.575GHz; IQ Freq (MHz): 250MHz; IIP3 (+dBm): 23dBm; Output P1dB (dBm): 8.5; DatasheetVersion: RevA; PackageVersion: 021606-A; PackageReference: CP-56-3; PackageDescription: 56-Lead Lead Frame Chip Scale Package [LFCSP_VQ]; Code_JEDEC: MO-220-VLLD-2; ComponentLink1Description: Manufacturer URL; ComponentLink1URL: www.analog.com; ComponentLink2Description: Datasheet; ComponentLink2URL: http://www.analog.com/static/imported-files/data_sheets/ADRF6750.pdf; ComponentLink3Description: Package Specification; ComponentLink3URL: http://www.analog.com/static/imported-files/packages/3287850526613CP_56_3.pdf
footprint ADI-CP-56-3_N (QFN, 56-Leads, Body 8x8mm, Pitch 0.5mm, Thermal Pad 4.8x4.8mm, IPC Medium Density)
footprint ADI-CP-56-3_L (QFN, 56-Leads, Body 8x8mm, Pitch 0.5mm, Thermal Pad 4.8x4.8mm, IPC High Density)
footprint ADI-CP-56-3_M (QFN, 56-Leads, Body 8x8mm, Pitch 0.5mm, Thermal Pad 4.8x4.8mm, IPC Low Density)
part A pins: 2 IBBP (in) "Differential In-Phase Baseband Inputs. These high impedance inputs must be dc-biased to approx-imately 500 mV dc and should be driven from a low impedance source. [see datasheet]", 3 IBBN (in) "Differential In-Phase Baseband Inputs. These high impedance inputs must be dc-biased to approx-imately 500 mV dc and should be driven from a low impedance source. [see datasheet]", 4 QBBN (in) "Differential Quadrature Baseband Inputs. These high impedance inputs must be dc-biased to approximately 500 mV dc and should be driven from a low impedance source. [see datasheet]", 5 QBBP (in) "Differential Quadrature Baseband Inputs. These high impedance inputs must be dc-biased to approximately 500 mV dc and should be driven from a low impedance source. [see datasheet]", 7 RSET (in) "Charge Pump Current Set. Connecting a resistor between this pin and ground sets the maximum charge pump output current. [see datasheet]", 8 LF3 "No connect pins.", 9 CP (out) "Charge Pump Output. When enabled, this output provides +/-ICP to the external loop filter, which, in turn, drives the internal VCO.", 10 LF2 "No connect pins.", 17 REFIN (in) "Reference Input. This high impedance CMOS input should be ac-coupled.", 18 ~{REFIN} (in) "Reference Input Bar. This pin should be either grounded or ac-coupled to ground.", 22 TESTLO (in) "Differential Test Inputs. These inputs provide an option for an external 2x LO to drive the modulator.", 23 ~{TESTLO} (in) "This option can be selected by serial port programming. These inputs must be externally dc-biased and should be grounded if not used.", 25 LOMONP (out) "Differential Monitor Outputs. These pins provide a replica of the internal local oscillator frequency", 26 LOMONN (out) "Differential Monitor Outputs. These pins provide a replica of the internal local oscillator frequency (1x LO) at four different power levels: -6 dBm, -12 dBm, -18 dBm, and -24 dBm, approximately. [see datasheet]", 27 CS (in) "Chip Select, CMOS Input. When CS is high, the data stored in the shift registers is loaded into one of 31 latches. [see datasheet]", 28 SDO (out) "Serial Data Output for SPI Port. Register states can be read back on the SDO data output line", 29 SDI/SDA (io) "Serial Data Input for SPI Port/Serial Data Input/Output for I2C Port. In SPI mode, this pin is a high impedance CMOS data input, and data is loaded in an 8-bit word. [see datasheet]", 30 CLK/SCL (in) "Serial Clock Input for SPI/I2C Port. This serial clock is used to clock in the serial data to the registers. This input is a high impedance CMOS input.", 33 CCOMP1 "Internal Compensation Nodes. These pins must be decoupled to ground with a 100 nF capacitor", 34 CCOMP2 "Internal Compensation Nodes. These pins must be decoupled to ground with a 100 nF capacitor", 35 CCOMP3 "Internal Compensation Nodes. These pins must be decoupled to ground with a 100 nF capacitor", 38 VTUNE (in) "Control Input to the VCO. This voltage determines the output frequency and is derived from filtering the CP output voltage.", 43 MUXOUT (out) "Muxout. This output is a test output for diagnostic use only. It should be left unconnected by the customer.", 44 LDET (out) "Lock Detect. This output pin indicates the state of the PLL: a high level indicates a locked condition, whereas a low level indicates a loss of lock condition", 45 TXDIS (in) "Output Disable. This pin can be used to disable the RF output. Connect to high logic level to disable the output. Connect to low logic level for normal operation", 48 RFOUT (out) "RF Output. Single-ended, 50  ohm, internally biased RF output. This pin must be ac-coupled to the load."
part B pins: 12 REGOUT (power) "3.3 V Output Supply. Drives VREG1, VREG2, VREG3, VREG4, VREG5, and VREG6.", 13 VREG1 (power) "Positive Power Supplies for PLL Synthesizer, VCO, and Serial Port. Connect these pins to REGOUT (3.3 V) and decouple them separately.", 14 VREG2 (power) "Positive Power Supplies for PLL Synthesizer, VCO, and Serial Port. Connect these pins to REGOUT (3.3 V) and decouple them separately.", 15 VREG3 (power) "Positive Power Supplies for PLL Synthesizer, VCO, and Serial Port. Connect these pins to REGOUT (3.3 V) and decouple them separately.", 16 VREG4 (power) "Positive Power Supplies for PLL Synthesizer, VCO, and Serial Port. Connect these pins to REGOUT (3.3 V) and decouple them separately.", 31 VREG5 (power) "Positive Power Supplies for PLL Synthesizer, VCO, and Serial Port. Connect these pins to REGOUT (3.3 V) and decouple them separately.", 36 VREG6 (power) "Positive Power Supplies for PLL Synthesizer, VCO, and Serial Port. Connect these pins to REGOUT (3.3 V) and decouple them separately."
part C pins: 1 VCC4 (power) "Positive Power Supplies for I/Q Modulator. Apply a 5 V power supply to VCC1, which should be decoupled with power supply decoupling capacitors. [see datasheet]", 6 AGND (power) "Analog Ground. Connect to a low impedance ground plane.", 11 VCC1 (power) "Positive Power Supplies for I/Q Modulator. Apply a 5 V power supply to VCC1, which should be decoupled with power supply decoupling capacitors. [see datasheet]", 19 AGND (power) "Analog Ground. Connect to a low impedance ground plane.", 20 AGND (power) "Analog Ground. Connect to a low impedance ground plane.", 21 AGND (power) "Analog Ground. Connect to a low impedance ground plane.", 24 AGND (power) "Analog Ground. Connect to a low impedance ground plane.", 32 DGND (power) "Digital Ground. Connect to the same low impedance ground plane as the AGND pins.", 37 AGND (power) "Analog Ground. Connect to a low impedance ground plane.", 39 AGND (power) "Analog Ground. Connect to a low impedance ground plane.", 40 AGND (power) "Analog Ground. Connect to a low impedance ground plane.", 41 VCC3 (power) "Positive Power Supplies for I/Q Modulator. Apply a 5 V power supply to VCC1, which should be decoupled with power supply decoupling capacitors. [see datasheet]", 42 VCC3 (power) "Positive Power Supplies for I/Q Modulator. Apply a 5 V power supply to VCC1, which should be decoupled with power supply decoupling capacitors. [see datasheet]", 46 AGND (power) "Analog Ground. Connect to a low impedance ground plane.", 47 AGND (power) "Analog Ground. Connect to a low impedance ground plane.", 49 AGND (power) "Analog Ground. Connect to a low impedance ground plane.", 50 AGND (power) "Analog Ground. Connect to a low impedance ground plane.", 51 AGND (power) "Analog Ground. Connect to a low impedance ground plane.", 52 AGND (power) "Analog Ground. Connect to a low impedance ground plane.", 53 AGND (power) "Analog Ground. Connect to a low impedance ground plane.", 54 AGND (power) "Analog Ground. Connect to a low impedance ground plane.", 55 VCC2 (power) "Positive Power Supplies for I/Q Modulator. Apply a 5 V power supply to VCC1, which should be decoupled with power supply decoupling capacitors. [see datasheet]", 56 VCC2 (power) "Positive Power Supplies for I/Q Modulator. Apply a 5 V power supply to VCC1, which should be decoupled with power supply decoupling capacitors. [see datasheet]", 57 EP (power) "Exposed Paddle. Connect to ground plane via a low impedance path."